# Altium schematic symbol library FTSH-105-01-F-DV-P-TR.SchLib: 1 symbol
Pins are listed as number, name and electrical type; pins without a type are passive.

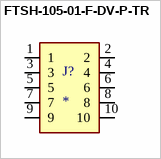
[diagram p0: symbol FTSH-105-01-F-DV-P-TR]

## FTSH-105-01-F-DV-P-TR
designator J?
Connector Header Surface Mount 10 position 0.050 (1.27mm); MP: FTSH-105-01-F-DV-P-TR; MF: Samtec; Value: *; SnapEDA_Link: https://www.snapeda.com/parts/FTSH-105-01-F-DV-P-TR/Samtec%20Inc./view-part/2790357/?ref=snap; Purchase-URL: https://pricing.snapeda.com/search/part/FTSH-105-01-F-DV-P-TR/?ref=eda; Check_prices: https://www.snapeda.com/parts/FTSH-105-01-F-DV-P-TR/Samtec%20Inc./view-part/2790357/?ref=eda; Availability: Bad; Price: None; Package: None
footprint SAMTEC_FTSH-105-01-F-DV-P-TR
pins: 1, 2, 3, 4, 5, 6, 7, 8, 9, 10